# Altium footprint library RELAY.PcbLib: 2 footprints
Each footprint in its own frame and in the unit in brackets; x right, y up, seen from the top. Pads: shape width x height; smd on the part's side, far side on the other; paste and mask are expansions set on the pad; w line width, h text height; cw(c..) or ccw(c..) is an arc to the next point about the centre after c.
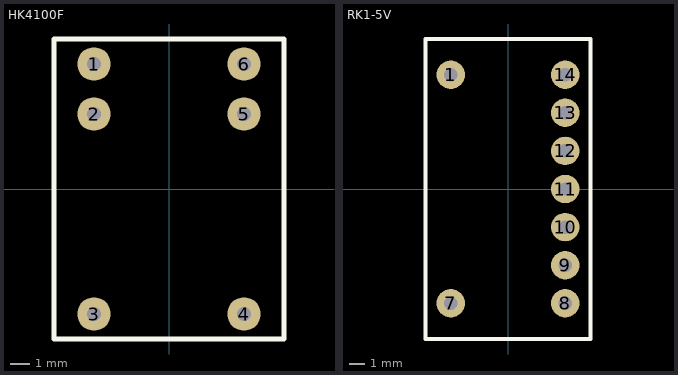
[diagram p0: the footprints below, top view; thin cyan lines are the x and y axes]

## HK4100F [mm] "单刀单掷继电器"
height 11.8
pads (6):
  round 1.7 hole 0.7: 1(-3.81,6.35) 2(-3.81,3.81) 3(-3.81,-6.35) 4(3.81,-6.35) 5(3.81,3.81) 6(3.81,6.35)
Top Overlay:
  lines w0.254: -5.842,-7.62 -5.842,7.62 ; -5.81,-7.62 5.81,-7.62 ; -5.81,7.62 5.81,7.62 ; 5.842,-7.62 5.842,7.62

## RK1-5V [mm] "Nais ralay"
height 9
pads (9):
  round 1.9 hole 0.9 mask+0.127: 1(-3.81,7.62) 7(-3.81,-7.62) 8(3.81,-7.62) 9(3.81,-5.08) 10(3.81,-2.54) 11(3.81,0) 12(3.81,2.54) 13(3.81,5.08) 14(3.81,7.62)
Top Overlay:
  lines w0.254: -5.5,-10 5.5,-10 5.5,10 -5.5,10 -5.5,-10